# Altium schematic symbol library WSHP28183L000FEA.SchLib: 1 symbol
Pins are listed as number, name and electrical type; pins without a type are passive.

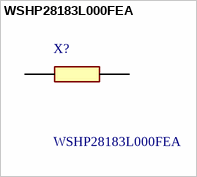
[diagram p0: symbol WSHP28183L000FEA]

## WSHP28183L000FEA
designator X?
Current Sense Resistors - SMD 10W .003ohms 1%; Manufacturer_Name: Vishay; Geometry.Height: 1.75mm; Mouser Part Number: 71-WSHP28183L000FEA; Mouser Price/Stock: https://www.mouser.co.uk/ProductDetail/Vishay-Dale/WSHP28183L000FEA?qs=u4fy%2FsgLU9PGDWS9IKHQYw%3D%3D; Manufacturer_Part_Number: WSHP28183L000FEA; Datasheet Link: https://www.vishay.com/doc?30347
footprint WSHP28183L000FEA
pins: 1, 2